# EAGLE library part 18032011 (library WPME-CDI2C)
WPME-CDI2C Capacitive Digital Isolator I²C Characteristics 2-channel bidirectional I²C isolators Isolation voltage up to 3750 VRMS Basic isolation Bidirectional data transfer up to 2 MHz Bidirectional SDA and bi- or unidirectional SCL communication High level of immunity to system noise (CMTI ±150 kV/μs) Industrial standard package and pin configuration UL 1577 recognized DIN EN IEC 60747-17 (VDE 0884-17) certification Applications Isolated I²C, SMBus and PMBus interfaces Battery management systems Motor control Power supplies Instrumentation Isolated ADCs and DACs Isolated sensor interfaces <https://www.we-online.com/components/media/o893961v209%20Family-WPME-CDI2C.jpg> Details see: www.we-online.com/components/products/WPME-CDI2C <www.we-online.com/catalog/WPME-CDI2C/?utm_source=eagle_model&utm_medium=description_link&utm_campaign=eisos_eagle> Created by Ella 2026-05-19 2026 (C) Würth Elektronik
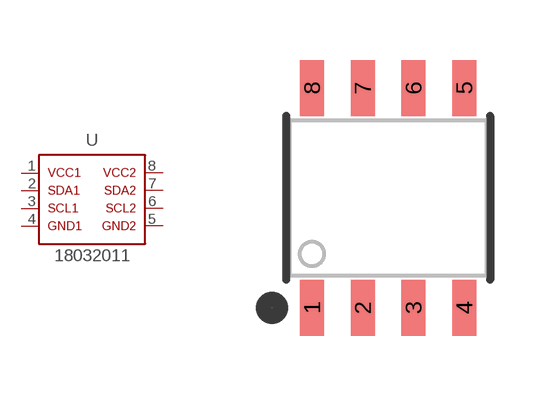
[diagram p1: symbol with the pads of WPME-CDI2C_SOIC8NB; footprint WPME-CDI2C_SOIC8NB]

Designator prefix U

## 18032011 (CHANNEL-CONFIGURATION: 2B/0U; CMTI: 150 kV/µs; DATASHEET-URL: https://www.we-online.com/redexpert/spec/18032011?ae; FMAX: 2 MHz; HEIGHT: 1.8mm; LENGTH: 4.9mm; MOUNT: SMT; PART-NUMBER: 18032011; SIZE: SOIC-8NB; TYPE-OF-INSULATION: Basic; VALUE: 18032011; VCC-MAX: 5.5 V; VCC-MIN: 3 V; VISO: 3750 V (RMS); WIDTH: 6mm)  [WPME-CDI2C_SOIC8NB]
1  1  pwr
2  2
3  3
4  4  pwr
5  5  pwr
6  6
7  7
8  8  pwr

## Footprint WPME-CDI2C_SOIC8NB (pad centres in mm)
WPME-CDI2C Capacitive Digital Isolator I²C Size: SOIC-8NB, SMT, 8pins LXWXH=4.9x6x1.8mm
smd 0.6 x 1.4: 1 -1.905,-2.75; 2 -0.635,-2.75; 3 0.635,-2.75; 4 1.905,-2.75; 5 1.905,2.75; 6 0.635,2.75; 7 -0.635,2.75; 8 -1.905,2.75